# EAGLE library part DB920 (library chiyoda)
920MHz Wireless transceiver module Source: http://www.cec-chiyoda.co.jp/newitem/DB920_Catalog_jp_V2014_0609.pdf
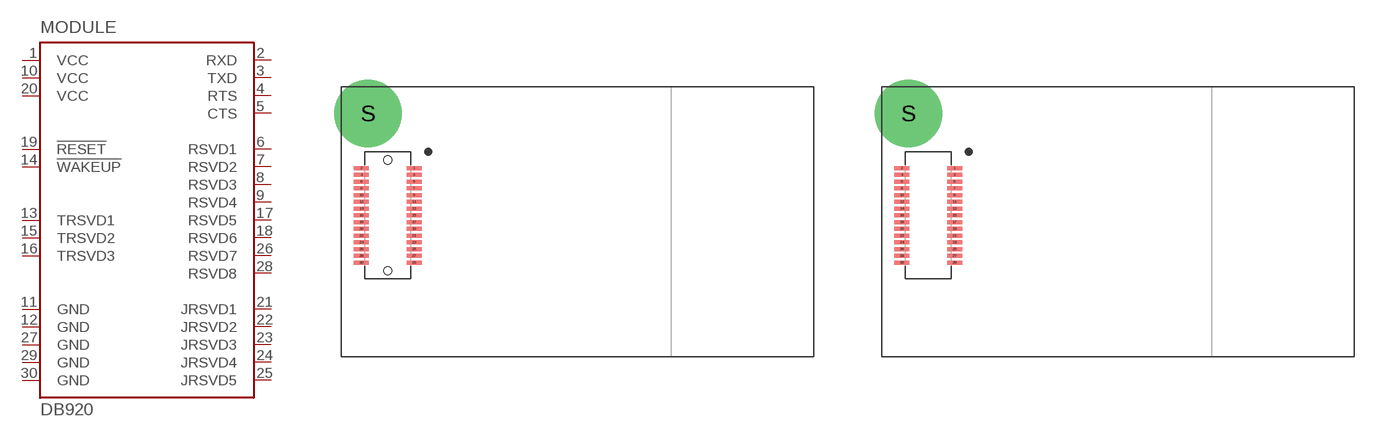
[diagram p0: symbol with the pads of 30P*-JMCS-G-B-TF; footprints 30P*-JMCS-G-B-TF, 30P*-JMCS-G-TF]

Designator prefix MODULE

## DB920-B-TF  [30P*-JMCS-G-B-TF]
1  VCC  pwr
2  RXD  in
3  TXD  out
4  RTS  out
5  CTS  in
6  RSVD1
7  RSVD2
8  RSVD3
9  RSVD4
10  VCC  pwr
11  GND  pwr
12  GND  pwr
13  TRSVD1
14  !WAKEUP!  in
15  TRSVD2
16  TRSVD3
17  RSVD5
18  RSVD6
19  !RESET!  in
20  VCC  pwr
21  JRSVD1
22  JRSVD2
23  JRSVD3
24  JRSVD4
25  JRSVD5
26  RSVD7
27  GND  pwr
28  RSVD8
29  GND  pwr
30  GND  pwr

## DB920-TF  [30P*-JMCS-G-TF]
Pads as for 30P*-JMCS-G-B-TF

## Footprint 30P*-JMCS-G-B-TF (pad centres in mm)
smd 1.1 x 0.3: 1 1.95,3.5; 2 -1.95,3.5; 3 1.95,3; 4 -1.95,3; 5 1.95,2.5; 6 -1.95,2.5; 7 1.95,2; 8 -1.95,2; 9 1.95,1.5; 10 -1.95,1.5; 11 1.95,1; 12 -1.95,1; 13 1.95,0.5; 14 -1.95,0.5; 15 1.95,0; 16 -1.95,0; 17 1.95,-0.5; 18 -1.95,-0.5; 19 1.95,-1; 20 -1.95,-1; 21 1.95,-1.5; 22 -1.95,-1.5; 23 1.95,-2; 24 -1.95,-2; 25 1.95,-2.5; 26 -1.95,-2.5; 27 1.95,-3; 28 -1.95,-3; 29 1.95,-3.5; 30 -1.95,-3.5
drill 2.2 pad 5: S -1.46,7.54
hole 0.6 at 0,4.1
hole 0.6 at 0,-4.1

## Footprint 30P*-JMCS-G-TF (pad centres in mm)
smd 1.1 x 0.3: 1 1.95,3.5; 2 -1.95,3.5; 3 1.95,3; 4 -1.95,3; 5 1.95,2.5; 6 -1.95,2.5; 7 1.95,2; 8 -1.95,2; 9 1.95,1.5; 10 -1.95,1.5; 11 1.95,1; 12 -1.95,1; 13 1.95,0.5; 14 -1.95,0.5; 15 1.95,0; 16 -1.95,0; 17 1.95,-0.5; 18 -1.95,-0.5; 19 1.95,-1; 20 -1.95,-1; 21 1.95,-1.5; 22 -1.95,-1.5; 23 1.95,-2; 24 -1.95,-2; 25 1.95,-2.5; 26 -1.95,-2.5; 27 1.95,-3; 28 -1.95,-3; 29 1.95,-3.5; 30 -1.95,-3.5
drill 2.2 pad 5: S -1.46,7.54